# EAGLE library part POKEY (library jasons_stuff)
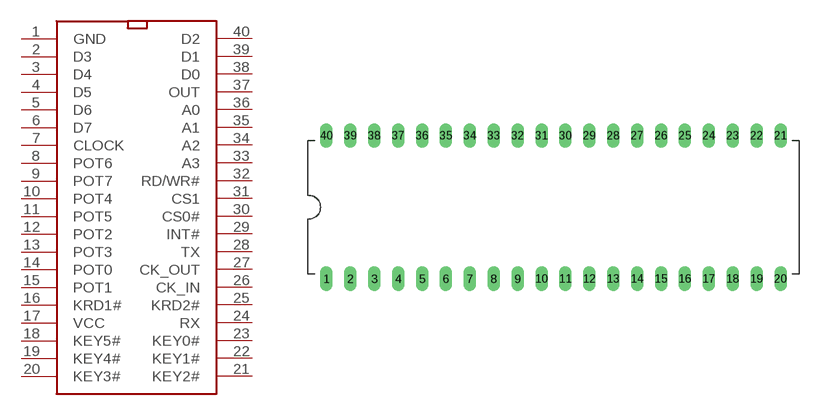
[diagram p1: symbol with the pads of DIL40; footprint DIL40]

Designator prefix -

## POKEYDIP40  [DIL40]
1  GND  pwr
2  D3
3  D4
4  D5
5  D6
6  D7
7  CLOCK  in
8  POT6  in
9  POT7  in
10  POT4  in
11  POT5  in
12  POT2  in
13  POT3  in
14  POT0  in
15  POT1  in
16  KRD1#
17  VCC  pwr
18  KEY5#
19  KEY4#
20  KEY3#
21  KEY2#
22  KEY1#
23  KEY0#
24  RX  in
25  KRD2#
26  CK_IN  in
27  CK_OUT  out
28  TX  out
29  INT#
30  CS0#  in
31  CS1  in
32  RD/WR#  in
33  A3  in
34  A2  in
35  A1  in
36  A0  in
37  OUT  out
38  D0
39  D1
40  D2

## Footprint DIL40 (pad centres in mm)
Dual In Line Package: 40-pin PDIP
drill 0.8 long: 1 -24.13,-7.62; 2 -21.59,-7.62; 3 -19.05,-7.62; 4 -16.51,-7.62; 5 -13.97,-7.62; 6 -11.43,-7.62; 7 -8.89,-7.62; 8 -6.35,-7.62; 9 -3.81,-7.62; 10 -1.27,-7.62; 11 1.27,-7.62; 12 3.81,-7.62; 13 6.35,-7.62; 14 8.89,-7.62; 15 11.43,-7.62; 16 13.97,-7.62; 17 16.51,-7.62; 18 19.05,-7.62; 19 21.59,-7.62; 20 24.13,-7.62; 21 24.13,7.62; 22 21.59,7.62; 23 19.05,7.62; 24 16.51,7.62; 25 13.97,7.62; 26 11.43,7.62; 27 8.89,7.62; 28 6.35,7.62; 29 3.81,7.62; 30 1.27,7.62; 31 -1.27,7.62; 32 -3.81,7.62; 33 -6.35,7.62; 34 -8.89,7.62; 35 -11.43,7.62; 36 -13.97,7.62; 37 -16.51,7.62; 38 -19.05,7.62; 39 -21.59,7.62; 40 -24.13,7.62